# Altium schematic symbol library Модуль трансформаторный.SchLib: 2 symbols
Pins are listed as number, name and electrical type; pins without a type are passive.

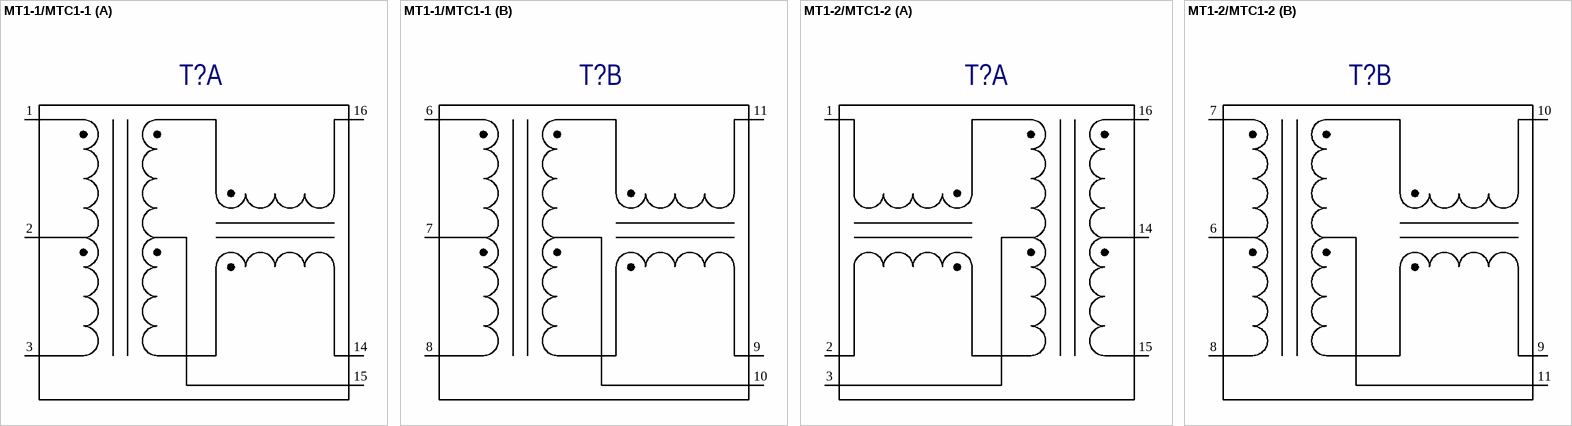
[diagram p0: symbols МТ1-1/МТС1-1 to МТ1-2/МТС1-2]

## МТ1-1/МТС1-1
designator T?, comment Трансформатор  "ПАО  «МСТАТОР»"  (value not drawn)
Модуль трансформаторный; Value: {Value}; Category: Трансформатор; Manufacturer: ПАО  «МСТАТОР»
footprint МТ
part A pins: 1, 2, 3, 14, 15, 16
part B pins: 6, 7, 8, 9, 10, 11

## МТ1-2/МТС1-2
designator T?, comment Трансформатор  "ПАО  «МСТАТОР»"  (value not drawn)
Модуль трансформаторный; Value: {Value}; Category: Трансформатор; Manufacturer: ПАО  «МСТАТОР»
footprint МТ
part A pins: 1, 2, 3, 14, 15, 16
part B pins: 6, 7, 8, 9, 10, 11